# EAGLE library part BMD-300 (library Rigado)
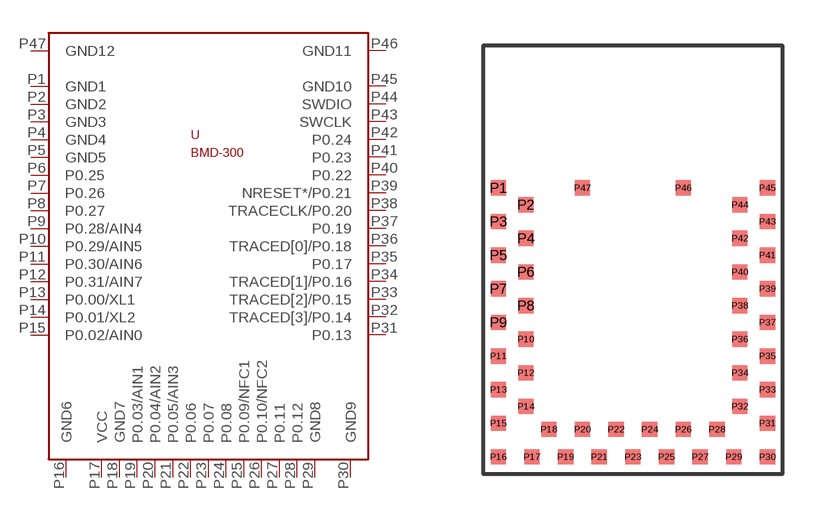
[diagram p1: symbol with the pads of BMD-300; footprint BMD-300]

Designator prefix U

## BMD-300  [BMD-300]
P1  GND1
P2  GND2
P3  GND3
P4  GND4
P5  GND5
P6  P0.25
P7  P0.26
P8  P0.27
P9  P0.28/AIN4
P10  P0.29/AIN5
P11  P0.30/AIN6
P12  P0.31/AIN7
P13  P0.00/XL1
P14  P0.01/XL2
P15  P0.02/AIN0
P16  GND6
P17  VCC
P18  GND7
P19  P0.03/AIN1
P20  P0.04/AIN2
P21  P0.05/AIN3
P22  P0.06
P23  P0.07
P24  P0.08
P25  P0.09/NFC1
P26  P0.10/NFC2
P27  P0.11
P28  P0.12
P29  GND8
P30  GND9
P31  P0.13
P32  TRACED[3]/P0.14
P33  TRACED[2]/P0.15
P34  TRACED[1]/P0.16
P35  P0.17
P36  TRACED[0]/P0.18
P37  P0.19
P38  TRACECLK/P0.20
P39  NRESET*/P0.21
P40  P0.22
P41  P0.23
P42  P0.24
P43  SWCLK
P44  SWDIO
P45  GND10
P46  GND11
P47  GND12

## Footprint BMD-300 (pad centres in mm)
smd 0.5 x 0.5: P1 0.5,9.35; P2 1.4,8.8; P3 0.5,8.25; P4 1.4,7.7; P5 0.5,7.15; P6 1.4,6.6; P7 0.5,6.05; P8 1.4,5.5; P9 0.5,4.95; P10 1.4,4.4; P11 0.5,3.85; P12 1.4,3.3; P13 0.5,2.75; P14 1.4,2.2; P15 0.5,1.65; P16 0.5,0.55; P17 1.6,0.55; P18 2.15,1.45; P19 2.7,0.55; P20 3.25,1.45; P21 3.8,0.55; P22 4.35,1.45; P23 4.9,0.55; P24 5.45,1.45; P25 6,0.55; P26 6.55,1.45; P27 7.1,0.55; P28 7.65,1.45; P29 8.2,0.55; P30 9.3,0.55; P31 9.3,1.65; P32 8.4,2.2; P33 9.3,2.75; P34 8.4,3.3; P35 9.3,3.85; P36 8.4,4.4; P37 9.3,4.95; P38 8.4,5.5; P39 9.3,6.05; P40 8.4,6.6; P41 9.3,7.15; P42 8.4,7.7; P43 9.3,8.25; P44 8.4,8.8; P45 9.3,9.35; P46 6.55,9.35; P47 3.25,9.35